# Altium footprint library MOV_1210_3225.PcbLib: 1 footprints
Each footprint in its own frame and in the unit in brackets; x right, y up, seen from the top. Pads: shape width x height; smd on the part's side, far side on the other; paste and mask are expansions set on the pad; w line width, h text height; cw(c..) or ccw(c..) is an arc to the next point about the centre after c.
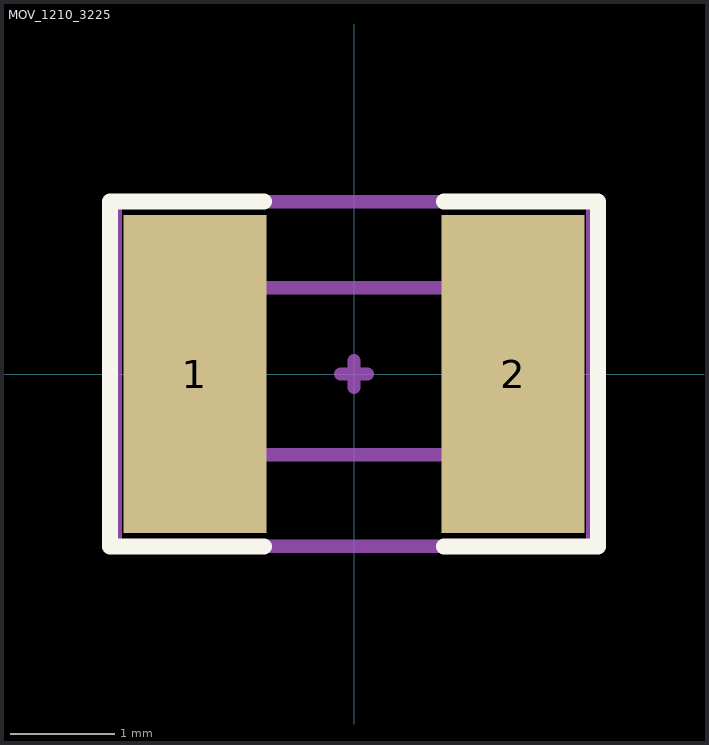
[diagram p0: the footprint, top view; thin cyan lines are the x and y axes]

## MOV_1210_3225 [mil]
pads (2):
  rect 54x120 smd: 1(-60,0) 2(60,0)
Top Overlay:
  lines w6: -34,-65 -92,-65 -92,65 -34,65 ; 34,-65 92,-65 92,65 34,65
Top Assembly:
  lines w5: -62.99,-30.49 62.99,-30.49 62.99,32.5 -62.99,32.5 -62.99,-30.49
Top Courtyard:
  lines w5: -5,0 5,0 ; 0,-5 0,5 ; -90,-65 90,-65 90,65 -90,65 -90,-65
3D body "User Library-V1206HD.STEP": height 59.06, standoff 0, extent -62.99,-30.5 63,32.5